# Altium footprint library footprints.PcbLib: 26 footprints (part 1 of 2)
Each footprint in its own frame and in the unit in brackets; x right, y up, seen from the top. Pads: shape width x height; smd on the part's side, far side on the other; paste and mask are expansions set on the pad; w line width, h text height; cw(c..) or ccw(c..) is an arc to the next point about the centre after c.
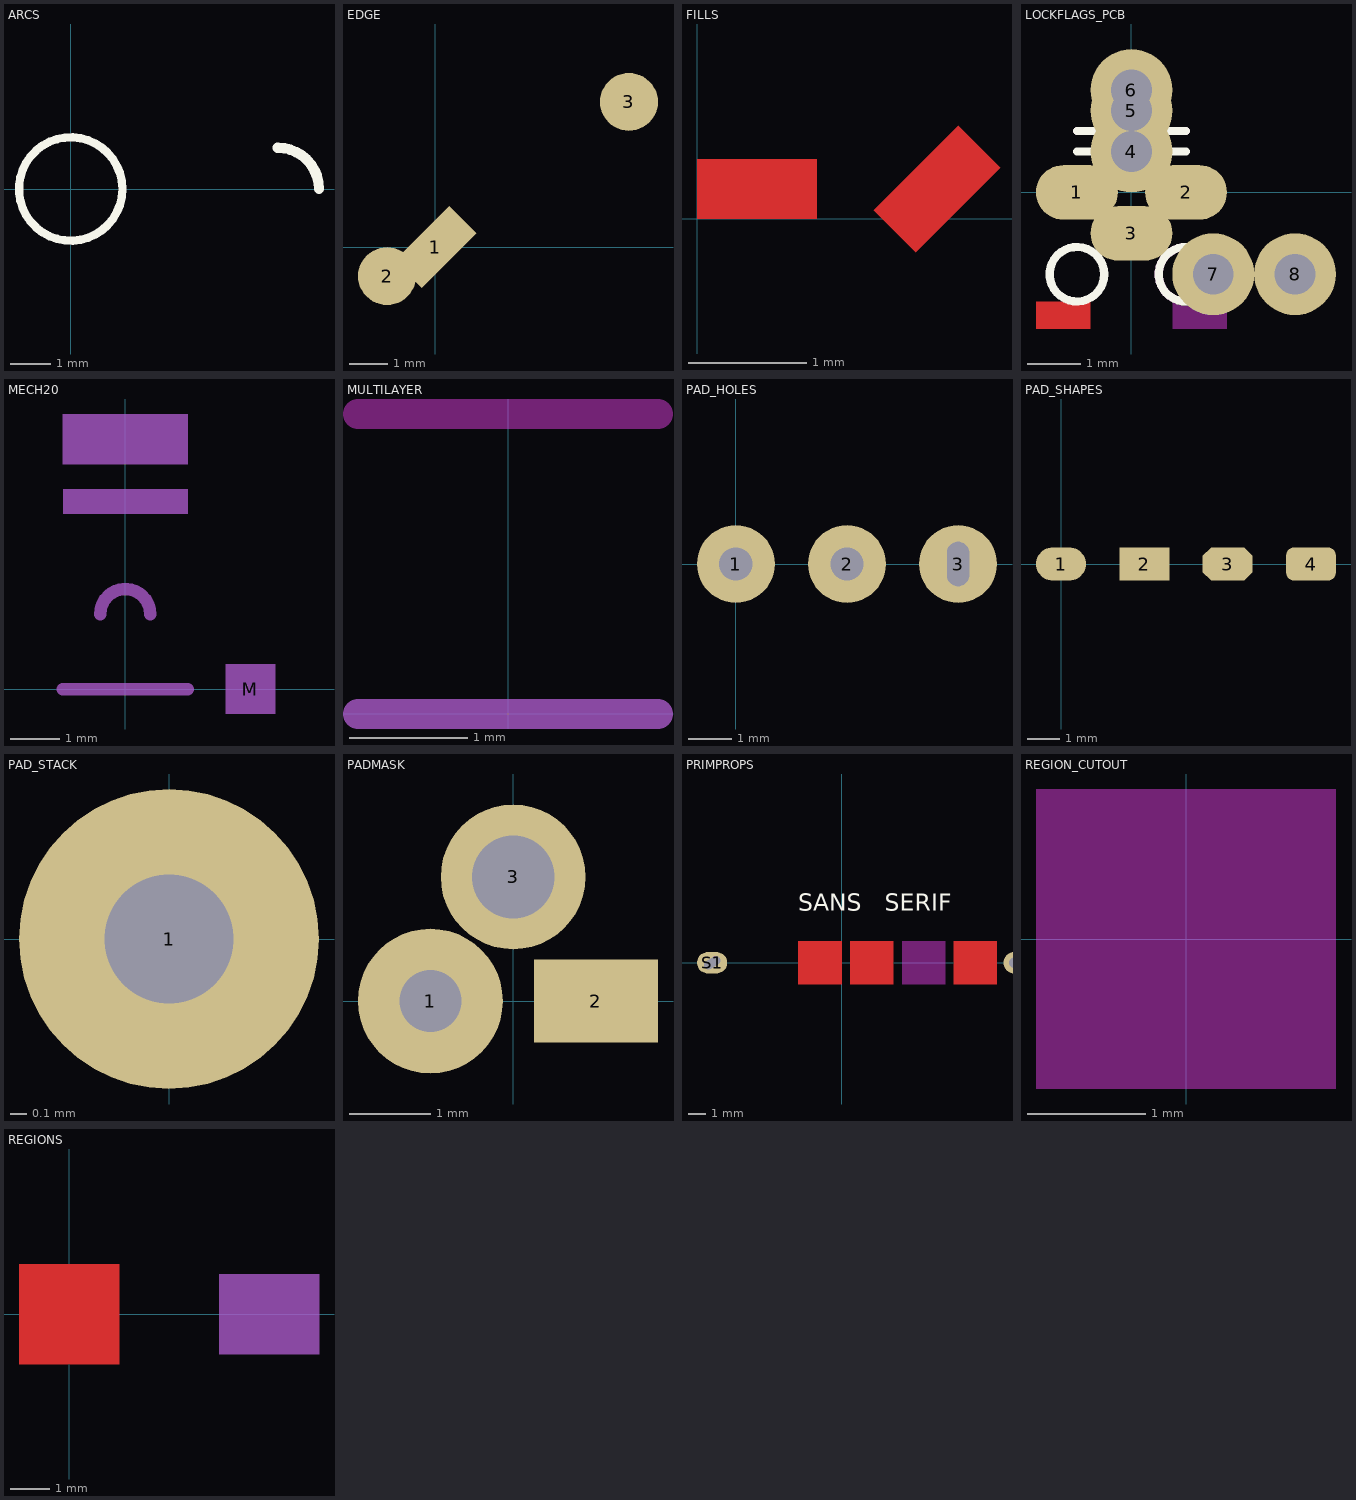
[diagram p0: the footprints below, top view; thin cyan lines are the x and y axes]

## ARCS [mil]
Top Overlay:
  circle w8: c0,0 r50
  lines w10: 200,40 cw(c200,0) 240,0

## BODY3D [mil]
3D body: height 40, standoff 0, extent -50,-30 50,30

## BODYPREC [mil]
3D body: height 40, standoff 0, extent -50,-25 50,25

## EDGE [mil]
pads (3):
  rect 80x40 smd rot 45: 1(0,0)
  round 60 smd: 2(-50,-30) 3(200,150)

## EMBSTEP [mil]
3D body "minimal.step": height 0, standoff 0, extent 0,0 0,0

## FILLS [mil]
Top Layer:
  rectangle: 0,0 40,20
  region: 72.93,-11.21 101.21,17.07 87.07,31.21 58.79,2.93

## LOCKFLAGS_PCB [mil]
pads (8):
  oval 60x40 smd: 1(-40,0) 2(40,0) 3(0,-30)
  round 60 hole 30: 4(0,30) 5(0,60) 6(0,75) 7(60,-60) 8(120,-60)
Top Layer:
  rectangle: -70,-100 -30,-80
Top Layer keep-out:
  rectangle: 30,-100 70,-80
Top Overlay:
  circle w6: c-40,-60 r20
  lines w6: -40,30 40,30
Top Overlay keep-out:
  circle w6: c40,-60 r20
  lines w6: -40,45 40,45

## MECH20 [mil]
pads (1):
  rect 40x40 on Mech20: M(100,0)
Mechanical 20:
  rectangle: -50,140 50,160
  region: -50,220 -50,180 50,180 50,220
  lines w10: -50,0 50,0 ; -20,60 cw(c0,60) 20,60
  text "M20" at 0,100 h50
3D body: height 20, standoff 0, extent 80,80 120,120

## MULTILAYER [mil]
Mid-Layer 5:
  lines w10: -50,20 50,20
Internal Plane 1:
  lines w10: -50,80 50,80
Drill Guide:
  lines w10: -50,40 50,40
Keep-Out Layer:
  lines w10: -50,100 50,100
Mechanical 2:
  lines w10: -50,0 50,0
Drill Drawing:
  lines w10: -50,60 50,60

## PAD_HOLES [mil]
pads (3):
  round 70 hole 30: 1(0,0)
  round 70 hole 30 square: 2(100,0)
  round 70 hole 40 slot 20 at 0 deg: 3(200,0)

## PAD_SHAPES [mil]
pads (4):
  oval 60x40 smd: 1(0,0)
  rect 60x40 smd: 2(100,0)
  oct 60x40 smd: 3(200,0)
  rrect50% 60x40 smd: 4(300,0)

## PAD_STACK [mil]
pads (1):
  round 70 / inner round 60 / far side rect 50x50 hole 30: 1(0,0)

## PADMASK [mil]
pads (3):
  round 70 hole 30 paste+3 mask+7: 1(-40,0)
  rect 60x40 smd: 2(40,0)
  round 70 hole 40 mask+5: 3(0,60)

## PRIMPROPS [mil]
pads (1):
  oval 70x50 hole 20 slot 40 at 30 deg unplated: S1(-300,0)
via 400,0 diameter 50 hole 25
Top Layer:
  dashed: -100,50 -100,-50 0,-50 0,50
  cavity: 20,50 20,-50 120,-50 120,50
  pour cut-out: 260,50 260,-50 360,-50 360,50
Top Overlay:
  text "SANS" at -100,120 h40
  text "SERIF" at 100,120 h40
Keep-Out Layer:
  board cut-out: 140,50 140,-50 240,-50 240,50
3D body: height 50, standoff 10, extent 160,-30 240,30

## REGION_CUTOUT [mil]
Keep-Out Layer:
  board cut-out: -50,50 -50,-50 50,-50 50,50

## REGIONS [mil]
Top Layer:
  region: -50,50 -50,-50 50,-50 50,50
Mechanical 1:
  region: 150,40 150,-40 250,-40 250,40